# EAGLE library part ACS710 (library PowerSocket)
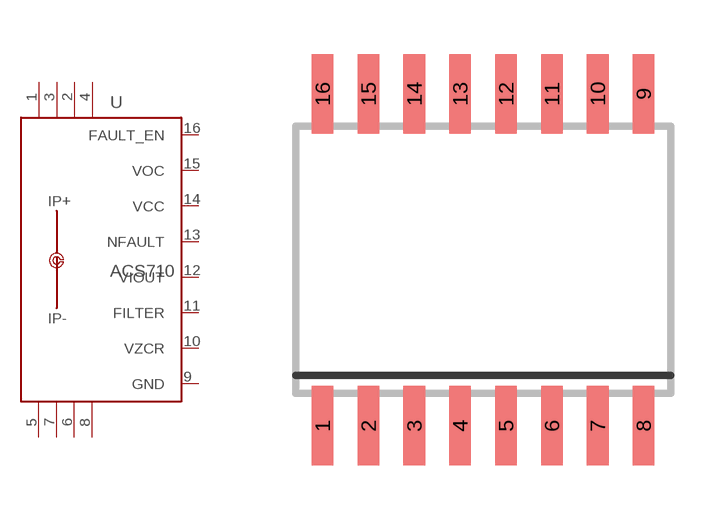
[diagram p0: symbol with the pads of SO-16DW; footprint SO-16DW]

Designator prefix -

## ACS710  [SO-16DW]
1  IP+  pas
2  IP+1  pas
3  IP+2  pas
4  IP+3  pas
5  IP-  pas
6  IP-1  pas
7  IP-2  pas
8  IP-3  pas
9  GND  pwr
10  VZCR  out
11  FILTER  in
12  VIOUT  out
13  NFAULT  out
14  VCC  pwr
15  VOC  in
16  FAULT_EN  in

## Footprint SO-16DW (pad centres in mm)
Small Outline Integrated Circuit wide
smd 0.6 x 2.2: 1 -4.445,-4.6; 2 -3.175,-4.6; 3 -1.905,-4.6; 4 -0.635,-4.6; 5 0.635,-4.6; 6 1.905,-4.6; 7 3.175,-4.6; 8 4.445,-4.6; 9 4.445,4.6; 10 3.175,4.6; 11 1.905,4.6; 12 0.635,4.6; 13 -0.635,4.6; 14 -1.905,4.6; 15 -3.175,4.6; 16 -4.445,4.6